# Altium footprint library QFN-52.PCBLIB: 1 footprints
Each footprint in its own frame and in the unit in brackets; x right, y up, seen from the top. Pads: shape width x height; smd on the part's side, far side on the other; paste and mask are expansions set on the pad; w line width, h text height; cw(c..) or ccw(c..) is an arc to the next point about the centre after c.
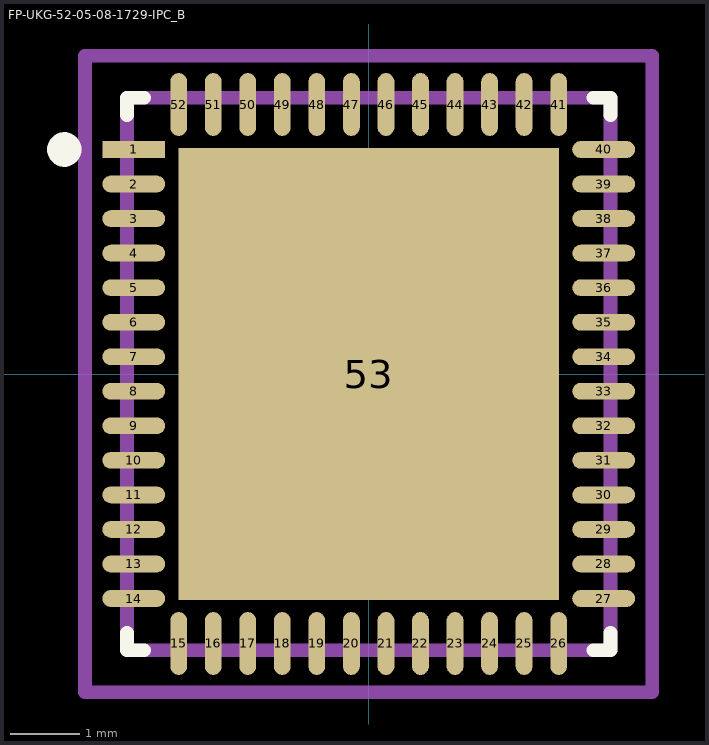
[diagram p0: the footprint, top view; thin cyan lines are the x and y axes]

## FP-UKG-52-05-08-1729-IPC_B [mm]
pads (53):
  rect 0.91x0.242 smd paste+0 mask+0: 1(-3.401,3.25)
  rrect100% 0.91x0.242 smd paste+0 mask+0: 2(-3.401,2.75) 3(-3.401,2.25) 4(-3.401,1.75) 5(-3.401,1.25) 6(-3.401,0.75) 7(-3.401,0.25) 8(-3.401,-0.25) 9(-3.401,-0.75) 10(-3.401,-1.25) 11(-3.401,-1.75) 12(-3.401,-2.25) 13(-3.401,-2.75) 14(-3.401,-3.25) 27(3.401,-3.25) 28(3.401,-2.75) 29(3.401,-2.25) 30(3.401,-1.75) 31(3.401,-1.25) 32(3.401,-0.75) 33(3.401,-0.25) 34(3.401,0.25) 35(3.401,0.75) 36(3.401,1.25) 37(3.401,1.75) 38(3.401,2.25) 39(3.401,2.75) 40(3.401,3.25)
  rrect100% 0.242x0.91 smd paste+0 mask+0: 15(-2.75,-3.901) 16(-2.25,-3.901) 17(-1.75,-3.901) 18(-1.25,-3.901) 19(-0.75,-3.901) 20(-0.25,-3.901) 21(0.25,-3.901) 22(0.75,-3.901) 23(1.25,-3.901) 24(1.75,-3.901) 25(2.25,-3.901) 26(2.75,-3.901) 41(2.75,3.901) 42(2.25,3.901) 43(1.75,3.901) 44(1.25,3.901) 45(0.75,3.901) 46(0.25,3.901) 47(-0.25,3.901) 48(-0.75,3.901) 49(-1.25,3.901) 50(-1.75,3.901) 51(-2.25,3.901) 52(-2.75,3.901)
  rect 5.51x6.55 smd paste-1000 mask+0: 53(0,0)
Top Overlay:
  circle w0.25: c-4.406,3.25 r0.125
  lines w0.2: -3.5,-3.75 -3.5,-4 -3.25,-4 ; -3.5,3.75 -3.5,4 -3.25,4 ; 3.25,-4 3.5,-4 3.5,-3.75 ; 3.25,4 3.5,4 3.5,3.75
Top Paste:
  rectangle: 0.366,-2.543 2.023,-0.366
  rectangle: -2.023,-2.543 -0.366,-0.366
  rectangle: 0.366,0.366 2.023,2.543
  rectangle: -2.023,0.366 -0.366,2.543
Top 3D Body:
  lines w0.2: -3.5,-4 -3.5,4 3.5,4 3.5,-4 -3.5,-4
Top Assembly:
  lines w0.2: -4.106,-4.606 -4.106,4.606 4.106,4.606 4.106,-4.606 -4.106,-4.606
Top Courtyard:
  lines w0.2: -4.106,-4.606 -4.106,4.606 4.106,4.606 4.106,-4.606 -4.106,-4.606
Top Designator:
  text ".Designator" at 0,-0.001 h1
Top Component Center:
  lines w0.1: -0.5,0 0.5,0 ; 0,-0.5 0,0.5
3D body "IC_Analog_Devices_LTC6955IUKG-1#PBF_eec.STEP": height 0.25, standoff 0, extent -4.106,-4.606 4.106,4.606